# Altium footprint library Wurth_Elektronik_Passive_rev16a.PCBLIB: 810 footprints (part 46 of 51)
Each footprint in its own frame and in the unit in brackets; x right, y up, seen from the top. Pads: shape width x height; smd on the part's side, far side on the other; paste and mask are expansions set on the pad; w line width, h text height; cw(c..) or ccw(c..) is an arc to the next point about the centre after c.
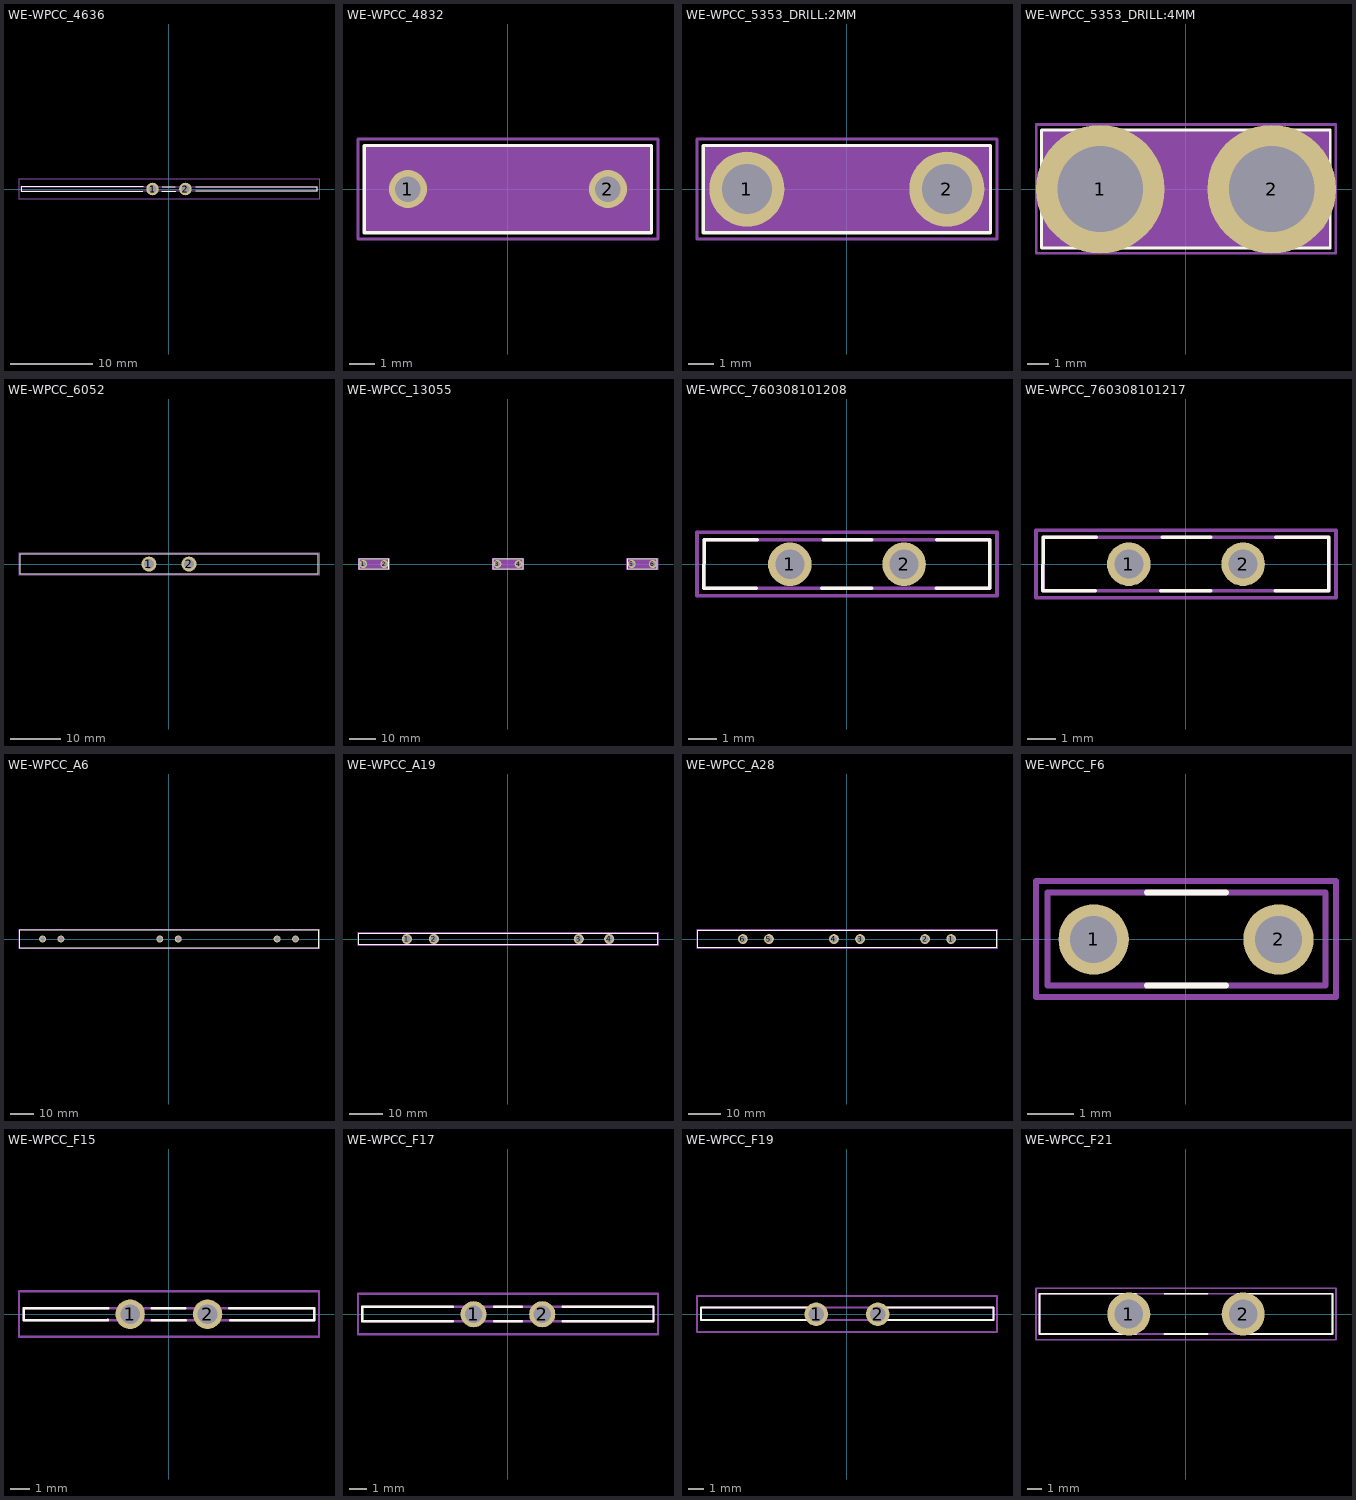
[diagram p45: the footprints below, top view; thin cyan lines are the x and y axes]

## WE-WPCC_4636 [mil]
pads (2):
  round 60 hole 40: 1(-78.74,0) 2(79,0)
Top Overlay:
  lines w5: -124.8,-9.84 -708.66,-9.84 -708.66,10 -124.02,10 ; -34.25,-9.84 33,-9.84 ; -33.07,10 31,10 ; 128,-9.84 709,-9.84 709,10 129,10
Mechanical 2:
  text ">Name" at -50,100 h77.5
Mechanical 4:
  text ">Value" at -50,-150 h77.5
Mechanical 16:
  lines w5: -708.66,-9.84 709,-9.84 709,10 -708.66,10 -708.66,-9.84
Mechanical 27:
  lines w5: -718.5,-50 719,-50 719,50 -718.5,50 -718.5,-50

## WE-WPCC_4832 [mil]
pads (2):
  round 60 hole 40: 1(-157.48,0) 2(158,0)
Top Overlay:
  lines w5: -226.38,-68.9 -226.38,69 227,69 227,-68.9 -226.38,-68.9
Mechanical 2:
  text ">NAME" at -150,100 h77.5
Mechanical 4:
  text ">VALUE" at -150,-150 h77.5
Mechanical 10:
  rectangle: -226.38,-68.9 227,69
Mechanical 27:
  lines w5: -236.22,-78.74 -236.22,79 237,79 237,-78.74 -236.22,-78.74

## WE-WPCC_5353_DRILL:2MM [mil]
pads (2):
  round 118.5 hole 79: 1(-157.48,0) 2(158,0)
Top Overlay:
  lines w5: -226.38,-68.9 -226.38,69 227,69 227,-68.9 -226.38,-68.9
Mechanical 2:
  text ">NAME" at -150,100 h77.5
Mechanical 4:
  text ">VALUE" at -150,-150 h77.5
Mechanical 10:
  rectangle: -226.38,-68.9 227,69
Mechanical 27:
  lines w5: -236.22,-78.74 -236.22,79 237,79 237,-78.74 -236.22,-78.74

## WE-WPCC_5353_DRILL:4MM [mil]
pads (2):
  round 237 hole 158: 1(-157.48,0) 2(158,0)
Top Overlay:
  lines w5: -265.75,-108.27 -265.75,109 266,109 266,-108.27 -265.75,-108.27
Mechanical 2:
  text ">NAME" at -150,150 h77.5
Mechanical 4:
  text ">VALUE" at -150,-200 h77.5
Mechanical 10:
  rectangle: -265.75,-108.27 266,109
Mechanical 27:
  lines w5: -275.59,-118.11 -275.59,119 276,119 276,-118.11 -275.59,-118.11

## WE-WPCC_6052 [mil]
pads (2):
  round 118.5 hole 79: 1(-157.48,0) 2(158,0)
Top Overlay:
  lines w5: -1171.26,-78.74 1172,-78.74 1172,79 -1171.26,79 -1171.26,-78.74
Mechanical 2:
  text ">Name" at -94.49,149 h77.5
Mechanical 4:
  text ">Value" at -102.36,-183.86 h77.5
Mechanical 27:
  lines w5: -1181.1,-88.58 1182,-88.58 1182,89 -1181.1,89 -1181.1,-88.58

## WE-WPCC_13055 [mil]
pads (6):
  round 118.5 hole 79: 1(-2165.35,0) 2(-1850.39,0) 3(-157.48,0) 4(158,0) 5(1851,0) 6(2166,0)
Top Overlay:
  lines w5: -2234.25,-68.9 -2234.25,69 -1781.5,69 -1781.5,-68.9 -2234.25,-68.9 ; -226.38,-68.9 -226.38,69 227,69 227,-68.9 -226.38,-68.9 ; 1782,-68.9 1782,69 2235,69 2235,-68.9 1782,-68.9
Mechanical 2:
  text ">NAME" at -200,150 h77.5
Mechanical 4:
  text ">VALUE" at -200,-250 h77.5
Mechanical 10:
  rectangle: -226.38,-68.9 227,69
  rectangle: -2234.25,-68.9 -1781.5,69
  rectangle: 1782,-68.9 2235,69
Mechanical 27:
  lines w5: -2244.09,-78.74 -2244.09,79 -1771.65,79 -1771.65,-78.74 -2244.09,-78.74 ; -236.22,-78.74 -236.22,79 237,79 237,-78.74 -236.22,-78.74 ; 1772,-78.74 1772,79 2245,79 2245,-78.74 1772,-78.74

## WE-WPCC_760308101208 [mil]
pads (2):
  round 60 hole 40: 1(-78.74,0) 2(79,0)
Top Overlay:
  lines w5: -124.8,-33.07 -197.24,-33.07 -196.85,34 -123.62,34 ; -34.25,-33.07 34,-33.07 ; -32.68,34 34,34 ; 123,-33.07 197,-33.07 197,34 124,34
Mechanical 2:
  text ">Name" at -96.06,73 h77.5
Mechanical 4:
  text ">Value" at -96.06,-110.63 h77.5
Mechanical 16:
  lines w5: -196.85,-33.07 197,-33.07 197,34 -196.85,34 -196.85,-33.07
Mechanical 27:
  lines w5: -206.69,-43.31 207,-43.31 207,44 -206.69,44 -206.69,-43.31

## WE-WPCC_760308101217 [mil]
pads (2):
  round 60 hole 40: 1(-78.74,0) 2(79,0)
Top Overlay:
  lines w5: -124.8,-36.61 -197.24,-36.61 -196.85,37 -123.62,37 ; -34.25,-36.61 34,-36.61 ; -32.68,37 34,37 ; 123,-36.61 197,-36.61 197,37 124,37
Mechanical 2:
  text ">Name" at -96.06,73 h77.5
Mechanical 4:
  text ">Value" at -96.06,-110.63 h77.5
Mechanical 16:
  lines w5: -196.85,-36.61 197,-36.61 197,37 -196.85,37 -196.85,-36.61
Mechanical 27:
  lines w5: -206.69,-46.46 207,-46.46 207,47 -206.69,47 -206.69,-46.46

## WE-WPCC_A6 [mil]
pads (6):
  round 118.5 hole 79: 1(-2165.35,0) 2(-1850.39,0) 3(-157.48,0) 4(158,0) 5(1851,0) 6(2166,0)
Top Overlay:
  lines w5: -2559.06,-157.48 2560,-157.48 2560,158 -2559.06,158 -2559.06,-157.48
Mechanical 2:
  text ">Name" at -39.37,237 h77.5
Mechanical 4:
  text ">Value" at -39.37,-275.59 h77.5
Mechanical 27:
  lines w5: -2568.9,-167.32 2569,-167.32 2569,168 -2568.9,168 -2568.9,-167.32

## WE-WPCC_A19 [mil]
pads (4):
  round 118.5 hole 79: 1(-1181.1,0) 2(-866.14,0) 3(827,0) 4(1182,0)
Top Overlay:
  lines w5: -1742.13,-68.9 1743,-68.9 1743,69 -1742.13,69 -1742.13,-68.9
Mechanical 2:
  text ">Name" at -118.11,158 h77.5
Mechanical 4:
  text ">Value" at -118.11,-196.85 h77.5
Mechanical 27:
  lines w5: -1751.97,-78.74 1752,-78.74 1752,79 -1751.97,79 -1751.97,-78.74

## WE-WPCC_A28 [mil]
pads (6):
  round 118.5 hole 79: 1(1260,0) 2(945,0) 3(158,0) 4(-157.48,0) 5(-944.88,0) 6(-1259.84,0)
Top Overlay:
  lines w5: -1805.12,-108.27 1806,-108.27 1806,109 -1805.12,109 -1805.12,-108.27
Mechanical 2:
  text ">Name" at -78.74,197 h77.5
Mechanical 4:
  text ">Value" at -78.74,-236.22 h77.5
Mechanical 27:
  lines w5: -1814.96,-118.11 1815,-118.11 1815,119 -1814.96,119 -1814.96,-118.11

## WE-WPCC_F6 [mil]
pads (2):
  round 60 hole 40: 1(-78.74,0) 2(79,0)
Top Overlay:
  lines w5: -33.46,-39.37 34,-39.37 ; -33.46,40 34,40 ; 34,40 34,40
Mechanical 2:
  text ">Name" at -96.06,73 h77.5
Mechanical 4:
  text ">Value" at -96.06,-110.63 h77.5
Mechanical 16:
  lines w5: -118.11,-39.37 119,-39.37 119,40 -118.11,40 -118.11,-39.37
Mechanical 27:
  lines w5: -127.95,-49.21 128,-49.21 128,50 -127.95,50 -127.95,-49.21

## WE-WPCC_F15 [mil]
pads (2):
  round 60 hole 40: 1(-78.74,0) 2(79,0)
Top Overlay:
  lines w5: -124.02,-11.42 -124.02,-11.81 -295.28,-11.81 -295.28,12 -122.83,12 ; -35.04,-11.81 35,-11.81 ; -34.65,12 34,12 ; 123,12 296,12 296,-11.81 125,-11.81
Mechanical 2:
  text ">Name" at -78.74,75 h77.5
Mechanical 4:
  text ">Value" at -78.35,-112.6 h77.5
Mechanical 16:
  lines w5: -295.28,-11.81 296,-11.81 296,12 -295.28,12 -295.28,-11.81
Mechanical 27:
  lines w5: -305.12,-46.06 306,-46.06 306,47 -305.12,47 -305.12,-46.06

## WE-WPCC_F17 [mil]
pads (2):
  round 60 hole 40: 1(-78.74,0) 2(79,0)
Top Overlay:
  lines w5: -125.98,-16.14 -334.65,-16.14 -334.65,17 -125.98,17 ; -31.5,-16.14 32,-16.14 ; -31.5,17 32,17 ; 126,-16.14 335,-16.14 335,17 126,17
Mechanical 2:
  text ">Name" at -78.74,75 h77.5
Mechanical 4:
  text ">Value" at -78.35,-112.6 h77.5
Mechanical 16:
  lines w5: -334.65,-16.14 335,-16.14 335,17 -334.65,17 -334.65,-16.14
Mechanical 27:
  lines w5: -344.49,-46.06 345,-46.06 345,47 -344.49,47 -344.49,-46.06

## WE-WPCC_F19 [mil]
pads (2):
  round 60 hole 40: 1(-78.74,0) 2(79,0)
Top Overlay:
  lines w5: -85.04,-14.96 -374.02,-14.96 -374.02,17 -85.04,17 ; 86,17 375,17 375,-14.96 86,-14.96 88,-14.57
Mechanical 2:
  text ">Name" at -78.74,75 h77.5
Mechanical 4:
  text ">Value" at -78.35,-112.6 h77.5
Mechanical 16:
  lines w5: -374.02,-14.96 375,-14.96 375,17 -374.02,17 -374.02,-14.96
Mechanical 27:
  lines w5: -383.86,-46.06 384,-46.06 384,47 -383.86,47 -383.86,-46.06

## WE-WPCC_F21 [mil]
pads (2):
  round 118.5 hole 79: 1(-157.48,0) 2(158,0)
Top Overlay:
  lines w5: -137.8,-55.12 -403.54,-55.12 -403.54,56 -137.8,56 ; -59.06,-55.12 60,-55.12 ; -59.06,56 60,56 ; 142,56 404,56 404,-55.12 146,-55.12
Mechanical 2:
  text ">Name" at -94.49,99 h77.5
Mechanical 4:
  text ">Value" at -102.36,-133.86 h77.5
Mechanical 16:
  lines w5: -403.54,-55.12 404,-55.12 404,56 -403.54,56 -403.54,-55.12
Mechanical 27:
  lines w5: -413.39,-70.87 414,-70.87 414,71 -413.39,71 -413.39,-70.87